# Altium footprint library PcbLib.PcbLib: 43 footprints (part 2 of 3)
Each footprint in its own frame and in the unit in brackets; x right, y up, seen from the top. Pads: shape width x height; smd on the part's side, far side on the other; paste and mask are expansions set on the pad; w line width, h text height; cw(c..) or ccw(c..) is an arc to the next point about the centre after c.
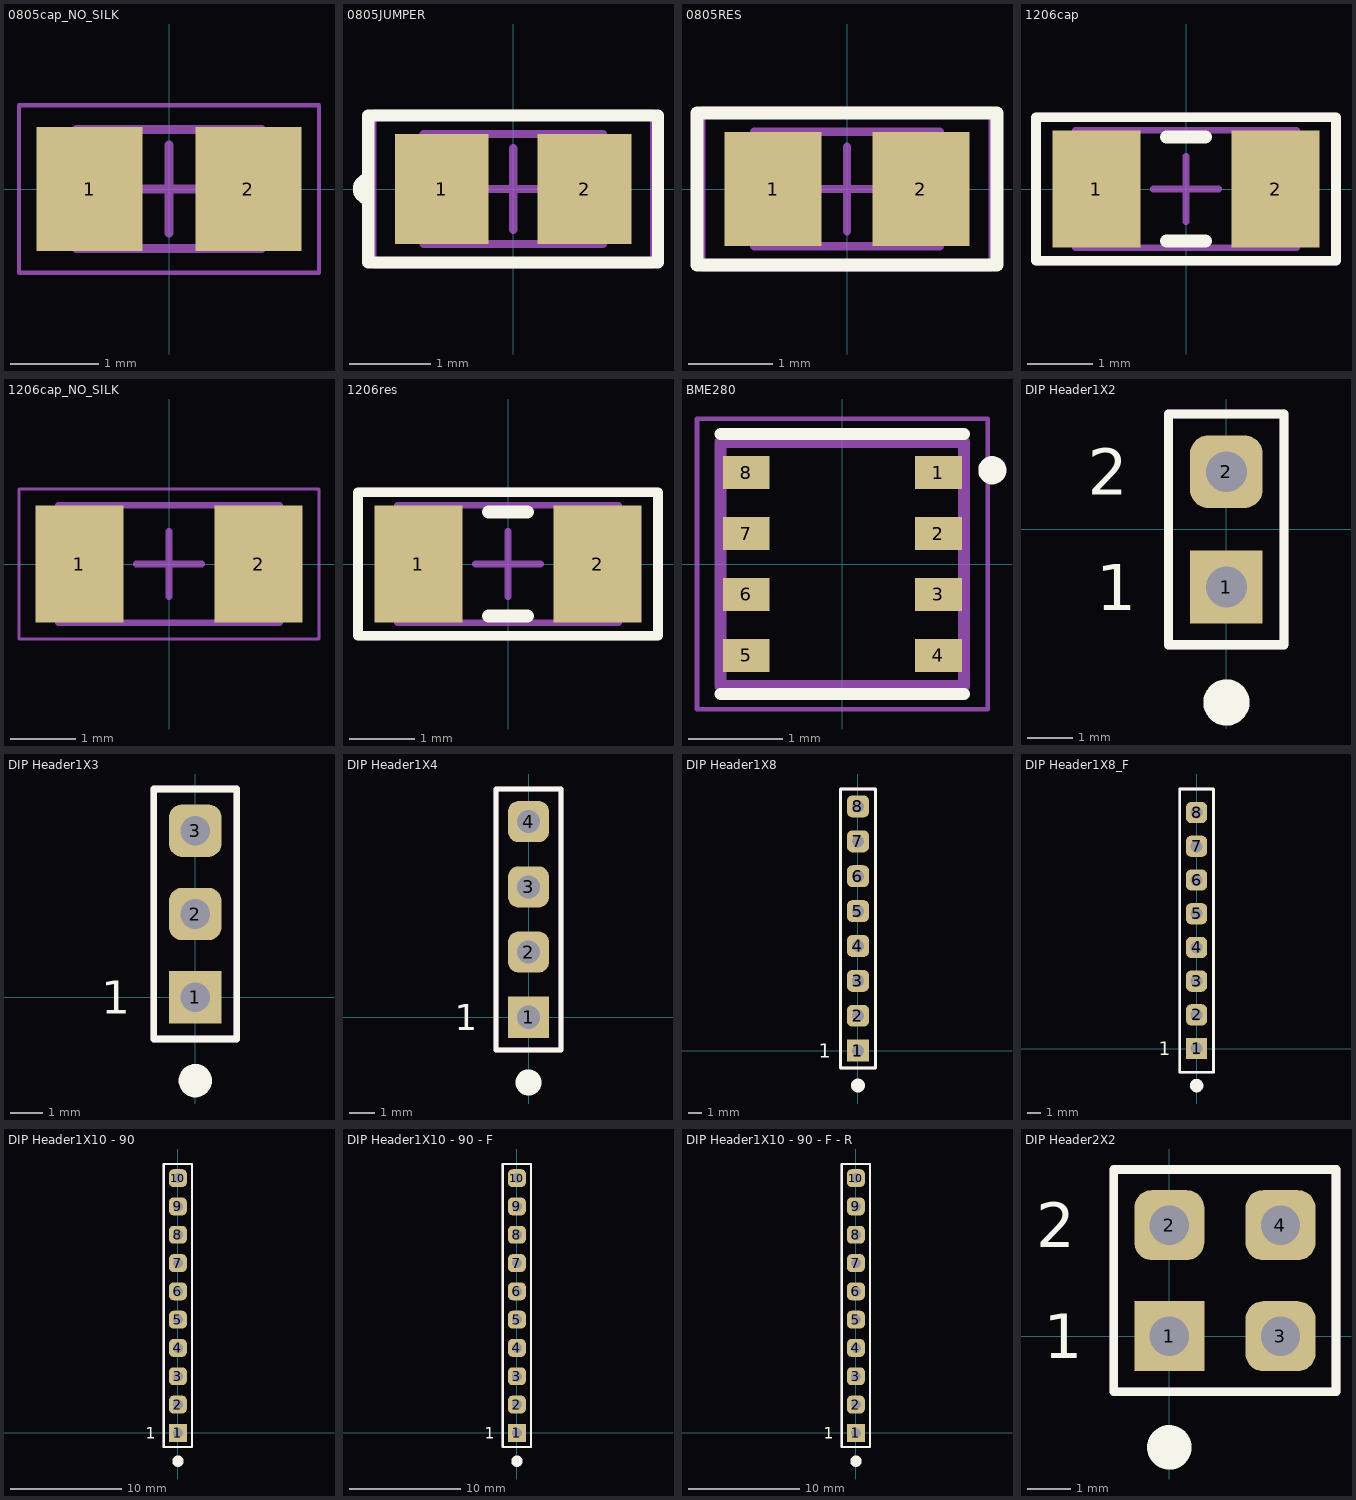
[diagram p1: the footprints below, top view; thin cyan lines are the x and y axes]

## 0805cap_NO_SILK [mm] "Chip Capacitor, 2-Leads, Body 2.00x1.25mm, IPC Medium Density"
height 1.25
pads (2):
  rect 1.2x1.4 smd: 1(-0.9,0) 2(0.9,0)
Mechanical 13:
  lines w0.1: -1.05,-0.675 -1.05,0.675 1.05,0.675 1.05,-0.675 -1.05,-0.675
Mechanical 15:
  lines w0.05: -1.7,-0.95 -1.7,0.95 1.7,0.95 1.7,-0.95 -1.7,-0.95
  lines w0.1: -0.5,0 0.5,0 ; 0,-0.5 0,0.5
3D body "CAPC2012X12N.step": height 1.25, standoff 0, extent -1.05,-0.675 1.05,0.675

## 0805JUMPER [mm] "Chip Resistor, 2-Leads, Body 2.00x1.25mm, IPC Medium Density"
height 0.7
pads (2):
  rect 1.15x1.35 smd: 1(-0.875,0) 2(0.875,0)
Top Overlay:
  lines w0.127: -1.775,-0.127 cw(c-1.775,0) -1.775,0.127
  lines w0.15: -1.775,-0.9 1.775,-0.9 1.775,0.9 -1.775,0.9 -1.775,-0.9
Mechanical 13:
  lines w0.1: -1.1,-0.675 1.1,-0.675 1.1,0.675 -1.1,0.675 -1.1,-0.675
Mechanical 15:
  lines w0.05: -1.7,-0.95 1.7,-0.95 1.7,0.95 -1.7,0.95 -1.7,-0.95
  lines w0.1: -0.5,0 0.5,0 ; 0,-0.5 0,0.5
3D body "0805RES.step": height 0.7, standoff 0, extent -1.1,-0.675 1.1,0.675

## 0805RES [mm] "Chip Resistor, 2-Leads, Body 2.00x1.25mm, IPC Medium Density"
height 0.7
pads (2):
  rect 1.15x1.35 smd: 1(-0.875,0) 2(0.875,0)
Top Overlay:
  lines w0.15: -1.775,-0.9 -1.775,0.9 1.775,0.9 1.775,-0.9 -1.775,-0.9
Mechanical 13:
  lines w0.1: -1.1,-0.675 -1.1,0.675 1.1,0.675 1.1,-0.675 -1.1,-0.675
Mechanical 15:
  lines w0.05: -1.7,-0.95 -1.7,0.95 1.7,0.95 1.7,-0.95 -1.7,-0.95
  lines w0.1: -0.5,0 0.5,0 ; 0,-0.5 0,0.5
3D body "0805RES.step": height 0.7, standoff 0, extent -1.1,-0.675 1.1,0.675

## 1206cap [mm] "Chip Capacitor, 2-Leads, Body 3.20x1.60mm, IPC Medium Density"
height 1.8
pads (2):
  rect 1.35x1.8 smd: 1(-1.375,0) 2(1.375,0)
Top Overlay:
  lines w0.15: -2.3,-1.1 2.3,-1.1 2.3,1.1 -2.3,1.1 -2.3,-1.1
  lines w0.2: -0.3,-0.8 0.3,-0.8 ; -0.3,0.8 0.3,0.8
Mechanical 13:
  lines w0.1: -1.7,-0.9 -1.7,0.9 1.7,0.9 1.7,-0.9 -1.7,-0.9
Mechanical 15:
  lines w0.05: -2.3,-1.15 -2.3,1.15 2.3,1.15 2.3,-1.15 -2.3,-1.15
  lines w0.1: -0.5,0 0.5,0 ; 0,-0.5 0,0.5
3D body "CAPC3216X18N.step": height 1.8, standoff 0, extent -1.7,-0.9 1.7,0.9

## 1206cap_NO_SILK [mm] "Chip Capacitor, 2-Leads, Body 3.20x1.60mm, IPC Medium Density"
height 1.8
pads (2):
  rect 1.35x1.8 smd: 1(-1.375,0) 2(1.375,0)
Mechanical 13:
  lines w0.1: -1.7,-0.9 -1.7,0.9 1.7,0.9 1.7,-0.9 -1.7,-0.9
Mechanical 15:
  lines w0.05: -2.3,-1.15 -2.3,1.15 2.3,1.15 2.3,-1.15 -2.3,-1.15
  lines w0.1: -0.5,0 0.5,0 ; 0,-0.5 0,0.5
3D body "CAPC3216X18N.step": height 1.8, standoff 0, extent -1.7,-0.9 1.7,0.9

## 1206res [mm] "Chip Resistor, 2-Leads, Body 3.20x1.60mm, IPC Medium Density"
height 0.65
pads (2):
  rect 1.35x1.8 smd: 1(-1.375,0) 2(1.375,0)
Top Overlay:
  lines w0.15: -2.3,-1.1 2.3,-1.1 2.3,1.1 -2.3,1.1 -2.3,-1.1
  lines w0.2: -0.3,-0.8 0.3,-0.8 ; -0.3,0.8 0.3,0.8
Mechanical 13:
  lines w0.1: -1.7,-0.9 1.7,-0.9 1.7,0.9 -1.7,0.9 -1.7,-0.9
Mechanical 15:
  lines w0.05: -2.3,-1.15 2.3,-1.15 2.3,1.15 -2.3,1.15 -2.3,-1.15
  lines w0.1: -0.5,0 0.5,0 ; 0,-0.5 0,0.5
3D body "RESC3216X07N.step": height 0.65, standoff 0, extent -1.7,-0.9 1.7,0.9

## BME280 [mm]
height 1
pads (8):
  rect 0.5x0.35 smd: 1(1.025,0.975) 2(1.025,0.325) 3(1.025,-0.325) 4(1.025,-0.975) 5(-1.025,-0.975) 6(-1.025,-0.325) 7(-1.025,0.325) 8(-1.025,0.975)
Top Overlay:
  circle w0.2: c1.6,1 r0.05
  lines w0.127: -1.3,-1.385 1.3,-1.385 ; -1.3,1.385 1.3,1.385
Mechanical 13:
  circle w0.2: c1,1 r0.05
  lines w0.127: -1.3,-1.3 -1.3,1.3 1.3,1.3 1.3,-1.3 -1.3,-1.3
Mechanical 15:
  lines w0.05: -1.55,-1.55 1.55,-1.55 1.55,1.55 -1.55,1.55 -1.55,-1.55
3D body "BME280.STEP": height 1, standoff 0, extent -1.25,-1.25 1.25,1.25

## DIP Header1X2 [mm]
pads (2):
  rect 1.6x1.6 hole 0.9: 1(0,-1.27)
  rrect50% 1.6x1.6 hole 0.9: 2(0,1.27)
Top Overlay:
  circle w0.508: c0,-3.81 r0.254
  lines w0.2: -1.27,-2.54 -1.27,2.54 1.27,2.54 1.27,-2.54 -1.27,-2.54
  text "1" at -2.87,-1.778 h1.02
  text "2" at -3.048,0.762 h1.02
Bottom Overlay:
  circle w0.508: c0,-3.81 r0.254
  lines w0.2: -1.27,-2.54 -1.27,2.54 1.27,2.54 1.27,-2.54 -1.27,-2.54
  text "2" at -2.362,0.762 h1.02
  text "1" at -2.54,-1.778 h1.02
Mechanical 13:
  lines w0.2: -1.27,-2.54 1.27,-2.54 1.27,2.54 -1.27,2.54 -1.27,-2.54
3D body "DS1021-1x2SF11.stp": height 8.6, standoff -3, extent -1.251,-2.54 1.289,2.54

## DIP Header1X3 [mm]
pads (3):
  rect 1.6x1.6 hole 0.9: 1(0,0)
  rrect50% 1.6x1.6 hole 0.9: 2(0,2.54) 3(0,5.08)
Top Overlay:
  circle w0.508: c0,-2.54 r0.254
  lines w0.2: -1.27,-1.27 -1.27,6.35 1.27,6.35 1.27,-1.27 -1.27,-1.27
  text "1" at -2.87,-0.508 h1.02
Bottom Overlay:
  circle w0.508: c0,-2.54 r0.254
  lines w0.2: -1.27,-1.27 -1.27,6.35 1.27,6.35 1.27,-1.27 -1.27,-1.27
  text "1" at -2.54,-0.508 h1.02
Mechanical 13:
  lines w0.2: -1.27,-1.27 1.27,-1.27 1.27,6.35 -1.27,6.35 -1.27,-1.27
3D body "DS1021-1x3SF11.stp": height 8.6, standoff -3, extent -1.27,-1.27 1.27,6.35

## DIP Header1X4 [mm]
pads (4):
  rect 1.6x1.6 hole 0.9: 1(0,0)
  rrect50% 1.6x1.6 hole 0.9: 2(0,2.54) 3(0,5.08) 4(0,7.62)
Top Overlay:
  circle w0.508: c0,-2.54 r0.254
  lines w0.2: -1.27,-1.27 -1.27,8.89 1.27,8.89 1.27,-1.27 -1.27,-1.27
  text "1" at -2.87,-0.508 h1.02
Bottom Overlay:
  circle w0.508: c0,-2.54 r0.254
  lines w0.2: -1.27,-1.27 -1.27,8.89 1.27,8.89 1.27,-1.27 -1.27,-1.27
  text "1" at -2.54,-0.508 h1.02
Mechanical 13:
  lines w0.2: -1.27,-1.27 1.27,-1.27 1.27,8.89 -1.27,8.89 -1.27,-1.27
3D body "DS1021-1x4SF11.stp": height 8.6, standoff -3, extent -1.27,-1.27 1.27,8.89

## DIP Header1X8 [mm]
pads (8):
  rect 1.6x1.6 hole 0.9: 1(0,0)
  rrect50% 1.6x1.6 hole 0.9: 2(0,2.54) 3(0,5.08) 4(0,7.62) 5(0,10.16) 6(0,12.7) 7(0,15.24) 8(0,17.78)
Top Overlay:
  circle w0.508: c0,-2.54 r0.254
  lines w0.2: -1.27,-1.27 1.27,-1.27 1.27,19.05 -1.27,19.05 -1.27,-1.27
  text "1" at -2.87,-0.508 h1.02
Bottom Overlay:
  circle w0.508: c0,-2.54 r0.254
  lines w0.2: -1.27,-1.27 1.27,-1.27 1.27,19.05 -1.27,19.05 -1.27,-1.27
  text "1" at -2.54,-0.508 h1.02
Mechanical 13:
  lines w0.2: -1.27,-1.27 -1.27,19.05 1.27,19.05 1.27,-1.27 -1.27,-1.27
3D body "DS1021-1x8SF11.stp": height 8.6, standoff -3, extent -1.27,-1.27 1.27,19.05

## DIP Header1X8_F [mm]
pads (8):
  rect 1.6x1.6 hole 0.9: 1(0,0)
  rrect50% 1.6x1.6 hole 0.9: 2(0,2.54) 3(0,5.08) 4(0,7.62) 5(0,10.16) 6(0,12.7) 7(0,15.24) 8(0,17.78)
Top Overlay:
  circle w0.508: c0,-2.794 r0.254
  lines w0.2: -1.27,-1.778 1.27,-1.778 1.27,19.558 -1.27,19.558 -1.27,-1.778
  text "1" at -2.87,-0.508 h1.02
Bottom Overlay:
  circle w0.508: c0,-2.794 r0.254
  lines w0.2: -1.27,-1.778 1.27,-1.778 1.27,19.558 -1.27,19.558 -1.27,-1.778
  text "1" at -2.54,-0.508 h1.02
Mechanical 13:
  lines w0.2: -1.27,-1.778 -1.27,19.558 1.27,19.558 1.27,-1.778 -1.27,-1.778
3D body "DS1023-1x8SF11.stp": height 8.5, standoff -3, extent -1.27,-1.67 1.27,19.45

## DIP Header1X10 - 90 [mm]
pads (10):
  rect 1.6x1.6 hole 0.9: 1(0,0)
  rrect50% 1.6x1.6 hole 0.9: 2(0,2.54) 3(0,5.08) 4(0,7.62) 5(0,10.16) 6(0,12.7) 7(0,15.24) 8(0,17.78) 9(0,20.32) 10(0,22.86)
Top Overlay:
  circle w0.508: c0,-2.54 r0.254
  lines w0.2: -1.27,-1.27 1.27,-1.27 1.27,24.13 -1.27,24.13 -1.27,-1.27
  text "1" at -2.87,-0.508 h1.02
Bottom Overlay:
  circle w0.508: c0,-2.54 r0.254
  lines w0.2: -1.27,-1.27 1.27,-1.27 1.27,24.13 -1.27,24.13 -1.27,-1.27
  text "1" at -2.54,-0.508 h1.02
Mechanical 13:
  lines w0.2: -1.27,-1.27 -1.27,24.13 1.27,24.13 1.27,-1.27 -1.27,-1.27
3D body "DS1022-1x10RDF11.stp": height 2.5, standoff -3, extent -10.03,-1.27 0.32,24.13

## DIP Header1X10 - 90 - F [mm]
pads (10):
  rect 1.6x1.6 hole 0.9: 1(0,0)
  rrect50% 1.6x1.6 hole 0.9: 2(0,2.54) 3(0,5.08) 4(0,7.62) 5(0,10.16) 6(0,12.7) 7(0,15.24) 8(0,17.78) 9(0,20.32) 10(0,22.86)
Top Overlay:
  circle w0.508: c0,-2.54 r0.254
  lines w0.2: -1.27,-1.27 -1.27,24.13 1.27,24.13 1.27,-1.27 -1.27,-1.27
  text "1" at -2.87,-0.508 h1.02
Bottom Overlay:
  circle w0.508: c0,-2.54 r0.254
  lines w0.2: -1.27,-1.27 -1.27,24.13 1.27,24.13 1.27,-1.27 -1.27,-1.27
  text "1" at -2.54,-0.508 h1.02
Mechanical 13:
  lines w0.2: -1.27,-1.27 1.27,-1.27 1.27,24.13 -1.27,24.13 -1.27,-1.27
3D body "DS1024-1x10RF1.stp": height 2.5, standoff -3.3, extent -10.3,-1.42 0.2,24.28

## DIP Header1X10 - 90 - F - R [mm]
pads (10):
  rect 1.6x1.6 hole 0.9: 1(0,0)
  rrect50% 1.6x1.6 hole 0.9: 2(0,2.54) 3(0,5.08) 4(0,7.62) 5(0,10.16) 6(0,12.7) 7(0,15.24) 8(0,17.78) 9(0,20.32) 10(0,22.86)
Top Overlay:
  circle w0.508: c0,-2.54 r0.254
  lines w0.2: -1.27,-1.27 1.27,-1.27 1.27,24.13 -1.27,24.13 -1.27,-1.27
  text "1" at -2.87,-0.508 h1.02
Bottom Overlay:
  circle w0.508: c0,-2.54 r0.254
  lines w0.2: -1.27,-1.27 1.27,-1.27 1.27,24.13 -1.27,24.13 -1.27,-1.27
  text "1" at -2.54,-0.508 h1.02
Mechanical 13:
  lines w0.2: -1.27,-1.27 -1.27,24.13 1.27,24.13 1.27,-1.27 -1.27,-1.27
3D body "DS1024-1x10RF1.stp": height 2.5, standoff -3.3, extent -0.2,-1.42 10.3,24.28

## DIP Header2X2 [mm]
pads (4):
  rect 1.6x1.6 hole 0.9: 1(0,0)
  rrect50% 1.6x1.6 hole 0.9: 2(0,2.54) 3(2.54,0) 4(2.54,2.54)
Top Overlay:
  circle w0.508: c0,-2.54 r0.254
  lines w0.2: -1.27,-1.27 3.81,-1.27 3.81,3.81 -1.27,3.81 -1.27,-1.27
  text "2" at -3.048,2.032 h1.02
  text "1" at -2.87,-0.508 h1.02
Bottom Overlay:
  circle w0.508: c0,-2.54 r0.254
  lines w0.2: -1.27,-1.27 3.81,-1.27 3.81,3.81 -1.27,3.81 -1.27,-1.27
  text "1" at -2.54,-0.508 h1.02
  text "2" at -2.362,2.032 h1.02
Mechanical 13:
  lines w0.2: -1.27,-1.27 -1.27,3.81 3.81,3.81 3.81,-1.27 -1.27,-1.27
3D body "TSW-102-07-G-D.stp": height 8.38, standoff -2.54, extent -1.27,-1.27 3.81,3.81